# EAGLE library part A114898-ND (library formula electric)
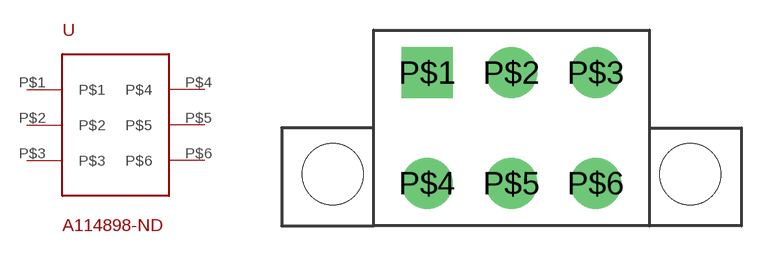
[diagram p16: symbol with the pads of A114898-ND; footprint A114898-ND]

Designator prefix -

## A114898-ND  [A114898-ND]
P$1  P$1
P$2  P$2
P$3  P$3
P$4  P$4
P$5  P$5
P$6  P$6

## Footprint A114898-ND (pad centres in mm)
drill 1.422 pad 2.54 square: P$1 -4.191,2.756
drill 1.422 pad 2.54: P$2 0,2.756; P$3 4.191,2.756; P$4 -4.191,-2.756; P$5 0,-2.756; P$6 4.191,-2.756
hole 3.048 at -8.89,-2.299
hole 3.048 at 8.89,-2.299